# Altium schematic symbol library NewBee_Schlib.SchLib: 4 symbols
Pins are listed as number, name and electrical type; pins without a type are passive.

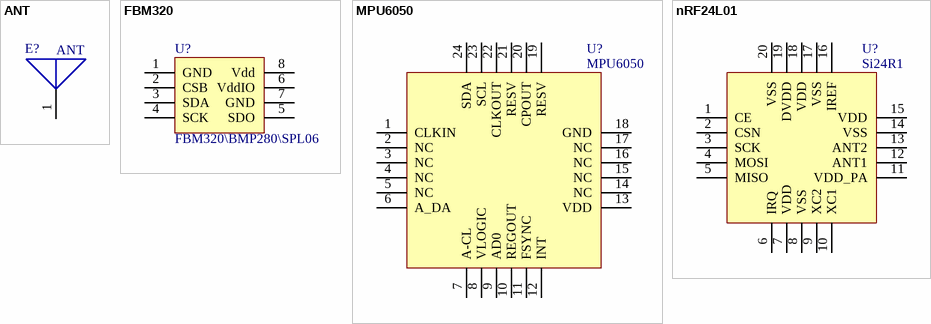
[diagram p0: symbols ANT to nRF24L01]

## ANT
designator E?
2.4G Antenna; Published: 12-August-2017; Publisher: mazhongwei
footprint AN3216
pins: 1

## FBM320
designator U?, comment FBM320\BMP280\SPL06
气压计; Published: 8-August-2017; Publisher: mazhongwei; PackageReference: LGA-2_5X2MM
footprint SENSOR-SMD_SPL06-001
pins: 1 GND, 2 CSB, 3 SDA, 4 SCK, 5 SDO, 6 VddIO, 7 GND, 8 Vdd

## MPU6050
designator U?
footprint QFN-24_4x4x05P
pins: 1 CLKIN, 2 NC, 3 NC, 4 NC, 5 NC, 6 A_DA, 7 A-CL, 8 VLOGIC, 9 AD0, 10 REGOUT, 11 FSYNC, 12 INT, 13 VDD, 14 NC, 15 NC, 16 NC, 17 NC, 18 GND, 19 RESV, 20 CPOUT, 21 RESV, 22 CLKOUT, 23 SCL, 24 SDA

## nRF24L01
designator U?, comment Si24R1
footprint QFN20
pins: 1 CE, 2 CSN, 3 SCK, 4 MOSI, 5 MISO, 6 IRQ, 7 VDD, 8 VSS, 9 XC2, 10 XC1, 11 VDD_PA, 12 ANT1, 13 ANT2, 14 VSS, 15 VDD, 16 IREF, 17 VSS, 18 VDD, 19 DVDD, 20 VSS